# Altium schematic symbol library XL-2020RGBC-WS2812B.SchLib: 1 symbol
Pins are listed as number, name and electrical type; pins without a type are passive.

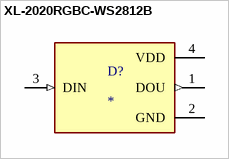
[diagram p0: symbol XL-2020RGBC-WS2812B]

## XL-2020RGBC-WS2812B
designator D?
2020 RGB LED(BUILT-IN IC); MF: XINGLIGHT; MP: XL-2020RGBC-WS2812B; SnapEDA_Link: https://www.snapeda.com/parts/XL-2020RGBC-WS2812B/Xinglight/view-part/?ref=snap; Package: None; Value: *; Check_prices: https://www.snapeda.com/parts/XL-2020RGBC-WS2812B/Xinglight/view-part/?ref=eda
footprint LED_XL-2020RGBC-WS2812B
pins: 1 DOU (out), 2 GND (power), 3 DIN (in), 4 VDD (power)